# Altium schematic symbol library Generic_Pads.SchLib: 4 symbols
Pins are listed as number, name and electrical type; pins without a type are passive.

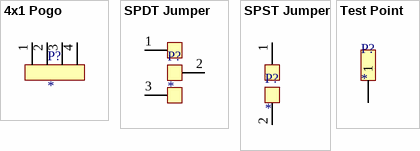
[diagram p0: symbols 4x1 Pogo to Test Point]

## 4x1 Pogo
designator P?
footprint POGO4x1
pins: 1, 2, 3, 4

## SPDT Jumper
designator P?
footprint SPDT Jumper
pins: 1, 2, 3

## SPST Jumper
designator P?
footprint SPST Solder Jumper
pins: 1, 2

## Test Point
designator P?
footprint Test Point
pins: 1